# EAGLE library part EA2 (library my_rcl)
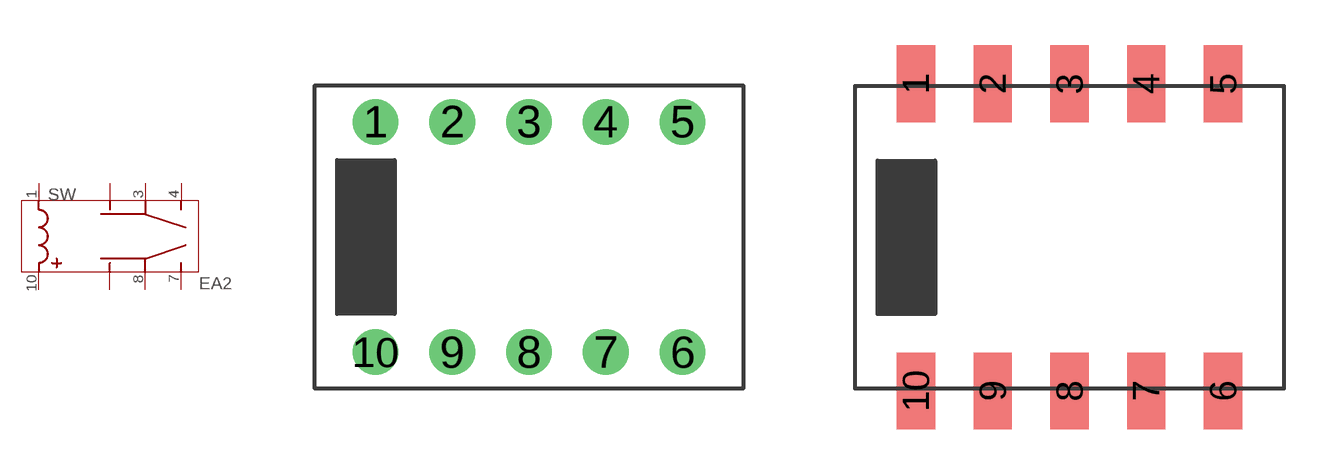
[diagram p2: symbol with the pads of EA2; footprints EA2, EA2-SMD]

Designator prefix SW

## EA2  [EA2]
1  L1  pas
2  B1  pas
3  COM1  pas
4  A1  pas
7  A2  pas
8  COM2  pas
9  B2  pas
10  L2  pas

## EA2-SMD  [EA2-SMD]
Pads as for EA2

## Footprint EA2 (pad centres in mm)
drill 1: 1 -5.08,3.81; 2 -2.54,3.81; 3 0,3.81; 4 2.54,3.81; 5 5.08,3.81; 6 5.08,-3.81; 7 2.54,-3.81; 8 0,-3.81; 9 -2.54,-3.81; 10 -5.08,-3.81

## Footprint EA2-SMD (pad centres in mm)
smd 1.27 x 2.54: 1 -5.08,5.08; 2 -2.54,5.08; 3 0,5.08; 4 2.54,5.08; 5 5.08,5.08; 6 5.08,-5.08; 7 2.54,-5.08; 8 0,-5.08; 9 -2.54,-5.08; 10 -5.08,-5.08